# Altium footprint library lib.PcbLib: 1 footprints
Each footprint in its own frame and in the unit in brackets; x right, y up, seen from the top. Pads: shape width x height; smd on the part's side, far side on the other; paste and mask are expansions set on the pad; w line width, h text height; cw(c..) or ccw(c..) is an arc to the next point about the centre after c.
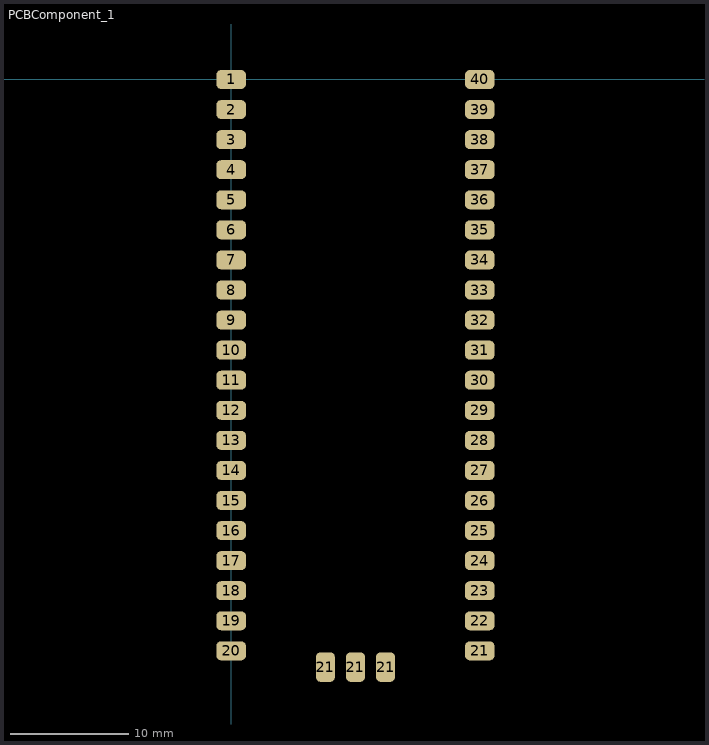
[diagram p0: the footprint, top view; thin cyan lines are the x and y axes]

## PCBComponent_1 [mm]
pads (43):
  rrect50% 2.5x1.6 smd: 1(0,0) 2(0,-2.54) 3(0,-5.08) 4(0,-7.62) 5(0,-10.16) 6(0,-12.7) 7(0,-15.24) 8(0,-17.78) 9(0,-20.32) 10(0,-22.86) 11(0,-25.4) 12(0,-27.94) 13(0,-30.48) 14(0,-33.02) 15(0,-35.56) 16(0,-38.1) 17(0,-40.64) 18(0,-43.18) 19(0,-45.72) 20(0,-48.26) 21(21,-48.26) 22(21,-45.72) 23(21,-43.18) 24(21,-40.64) 25(21,-38.1) 26(21,-35.56) 27(21,-33.02) 28(21,-30.48) 29(21,-27.94) 30(21,-25.4) 31(21,-22.86) 32(21,-20.32) 33(21,-17.78) 34(21,-15.24) 35(21,-12.7) 36(21,-10.16) 37(21,-7.62) 38(21,-5.08) 39(21,-2.54) 40(21,0)
  rrect50% 1.6x2.5 smd: 21(7.96,-49.63) 21(10.5,-49.63) 21(13.04,-49.63)
Bottom Overlay:
  lines w0.254: -3,-51.75 -3,1.5 -2.5,2 23.75,2 23.75,-51.75 ; -3,-51.75 -3,-51.75 ; -3,-51.75 23.75,-51.75 ; 23.75,-51.75 23.75,-51.75